# Altium schematic symbol library NC7SZU04.SchLib: 1 symbol
Pins are listed as number, name and electrical type; pins without a type are passive.

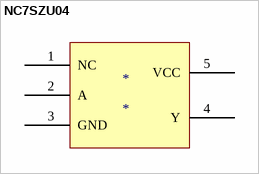
[diagram p0: symbol NC7SZU04]

## NC7SZU04
designator *
footprint SOT353-5L (SOT353, 5-Leads, Body 2x1.3mm, Pitch 0.65mm, Lead Span 2.1mm, IPC High Density)
pins: 1 NC, 2 A, 3 GND, 4 Y, 5 VCC